# Altium schematic symbol library Schlib1.SchLib: 137 symbols (part 2 of 2)
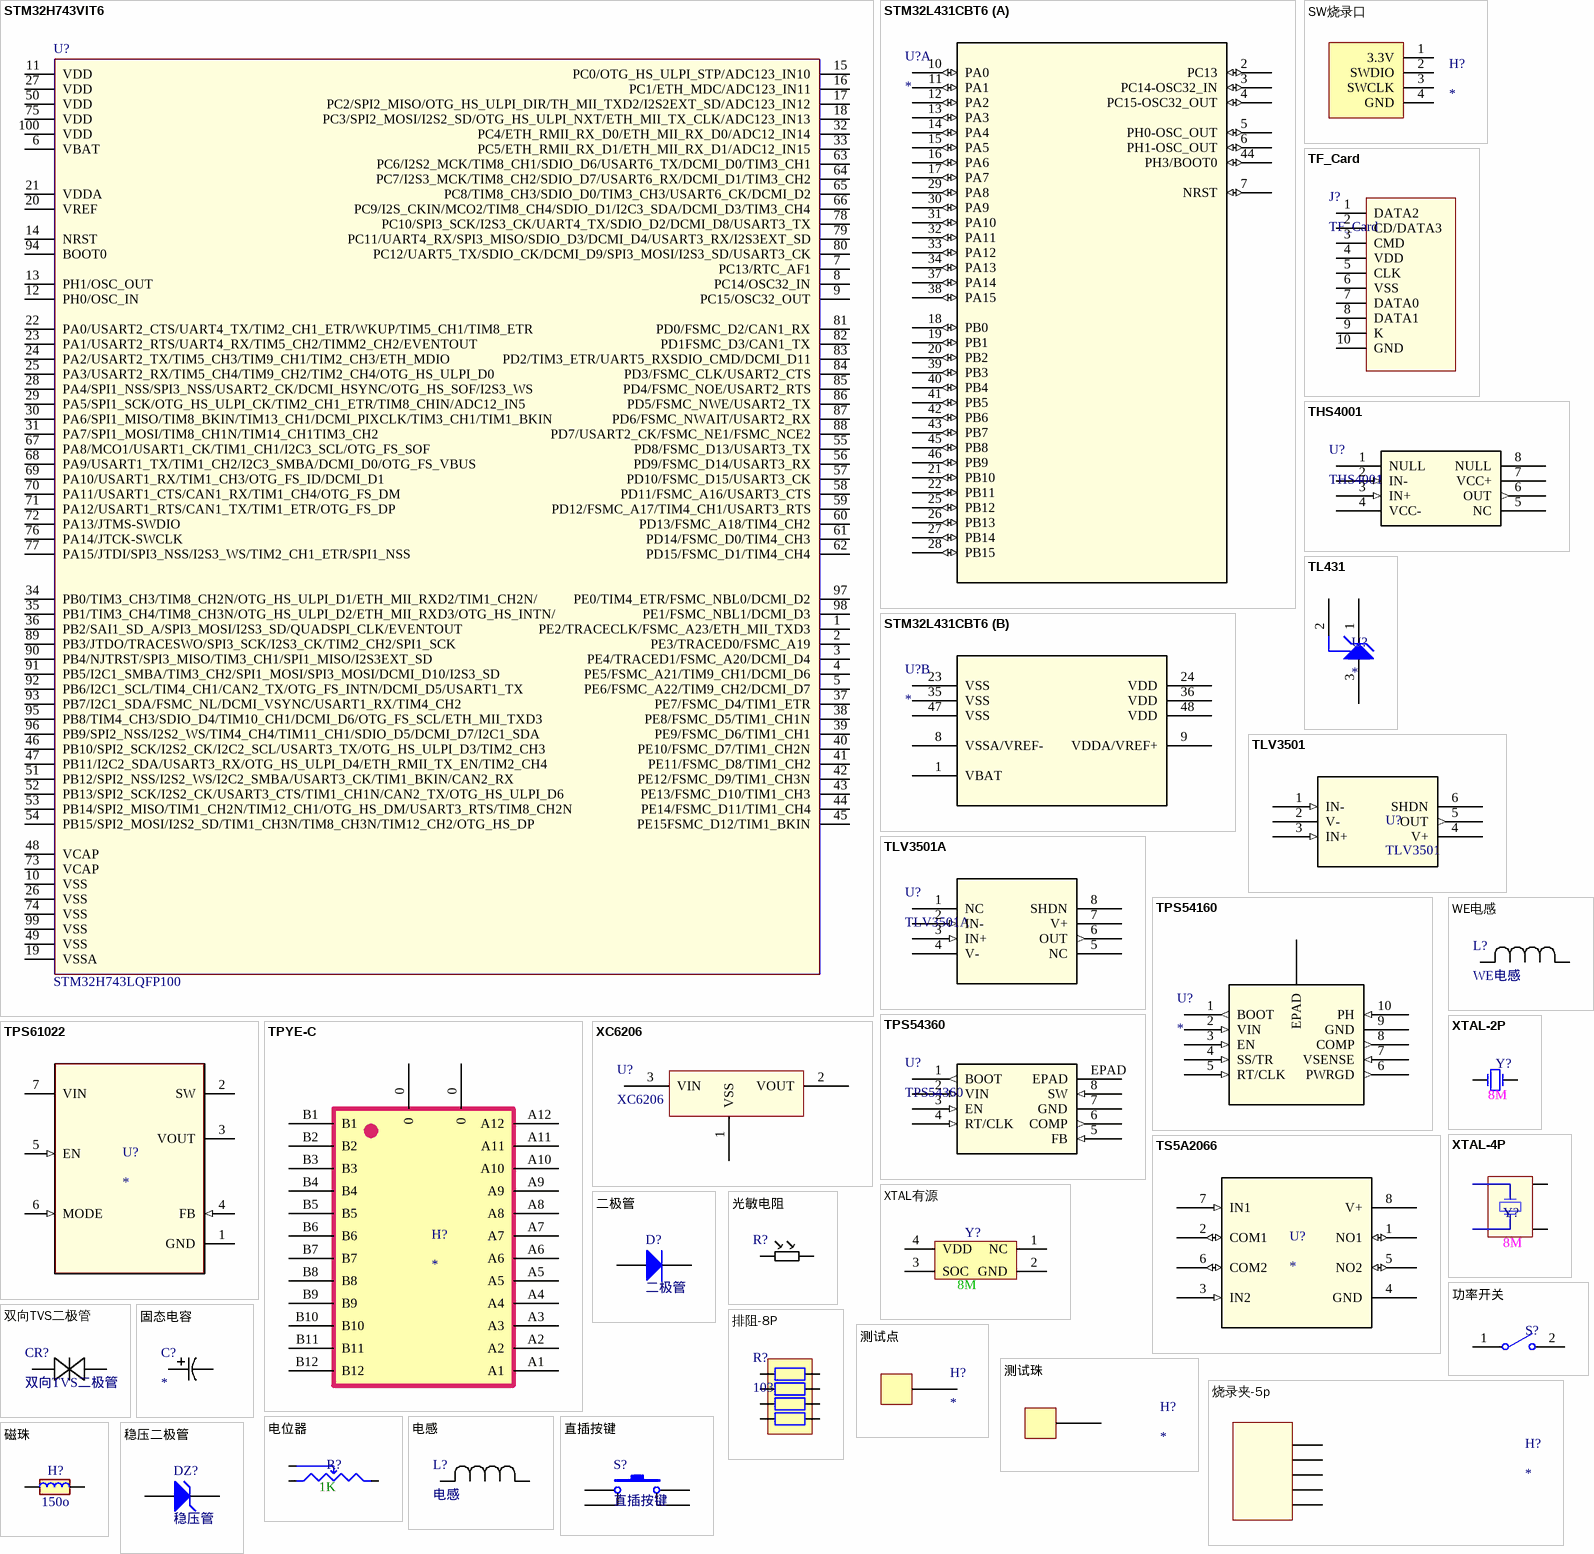
[diagram p7: symbols STM32H743VIT6 to 稳压二极管]

## TLV3501
designator U?
比较器; Manufacturer_Part_Number: TLV3501AIDBVT; Vendor: Texas Instruments; Built_By: EMA_UL_Team; Manufacturer: Texas Instruments; Copyright: Copyright (C) 2018 Accelerated Designs. All rights reserved; RefDes: RefDes; Type: DEV; Value: Value
footprint SOT-23-6
pins: 1 IN- (in), 2 V- (power), 3 IN+ (in), 4 V+ (power), 5 OUT (out), 6 SHDN

## TLV3501A
designator U?
Manufacturer_Part_Number: TLV3501AID; Vendor: Texas Instruments; PACKAGE_DESIGNATOR: D; PIN_COUNT: 8; FAMILY_NAME: COMPARATOR; INDUSTRY_STD_PKG_TYPE: SOIC; GENERIC_PART_NUMBER: TLV3501; Datasheet_URL: http://www.ti.com/lit/gpn/TLV3501; Manufacturer: Texas Instruments; Copyright: Copyright (C) 2018 Accelerated Designs. All rights reserved; RefDes: RefDes; Type: DEV
footprint SOIC-8 (3mm)
pins: 1 NC, 2 IN- (in), 3 IN+ (in), 4 V- (power), 5 NC, 6 OUT (out), 7 V+ (power), 8 SHDN

## TPS54160
designator U?
异步1.5A输出BUCK; Manufacturer_Part_Number: tps54160_dgq_10; GENERIC_PART_NUMBER: TPS54160; Vendor: Texas Instruments; PACKAGE_DESIGNATOR: DGQ; PIN_COUNT: 10; FAMILY_NAME: STEP-DOWN REGULATOR; INDUSTRY_STD_PKG_TYPE: MSOP-PowerPAD; Manufacturer: Texas Instruments; Datasheet_URL: http://www.ti.com/lit/gpn/TPS54160; Value: Value; Type: Type; RefDes: RefDes
footprint MSOP-10（with cooler）
pins: 1 BOOT (out), 2 VIN (in), 3 EN (in), 4 SS/TR (in), 5 RT/CLK (in), 6 PWRGD (out), 7 VSENSE (in), 8 COMP (out), 9 GND (power), 10 PH (in), EPAD

## TPS54360
designator U?
异步3A输出BUCK; Manufacturer_Part_Number: TPS54360DDAR; Vendor: Texas Instruments; Built_By: EMA_UL_Team; Copyright: Copyright (C) 2018 Accelerated Designs. All rights reserved; RefDes: RefDes; Type: DEV; Value: Value
footprint HSOIC8
pins: 1 BOOT (out), 2 VIN (in), 3 EN (in), 4 RT/CLK (in), 5 FB (in), 6 COMP (out), 7 GND (power), 8 SW (in), EPAD

## TPS61022
designator U?
0.5V 输入电压 8A 输出BOOST; Manufacturer: Texas Instruments; PartNumber: TPS61022RWUR; RefDes: RefDes; TYPE: TYPE; Value: Value
footprint VQFN-7
pins: 1 GND (power), 2 SW (power), 3 VOUT (power), 4 FB (in), 5 EN (in), 6 MODE (in), 7 VIN (power)

## TPYE-C
designator H?
footprint TYPE-C 24P
pins: 0, 0, A1, A2, A3, A4, A5, A6, A7, A8, A9, A10, A11, A12, B1, B2, B3, B4, B5, B6, B7, B8, B9, B10, B11, B12

## TS5A2066
designator U?
PartNumber: TS5A2066DCUR; Manufacturer: Texas Instruments; RefDes: RefDes; Type: DEV; Value: Value; Copyright: Copyright (C) 2018 Accelerated Designs. All rights reserved
footprint VSSOP-8
pins: 1 NO1 (io), 2 COM1 (io), 3 IN2 (in), 4 GND (power), 5 NO2 (io), 6 COM2 (io), 7 IN1 (in), 8 V+ (power)

## WE电感
designator L?
Manufacturer_Part_Number: 744325240; Vendor: Wurth Electronics; Built_By: EMA_UL_Team; Type: DEV; Copyright: Copyright (C) 2018 Accelerated Designs. All rights reserved; RefDes: RefDes; Value: Value
footprint WE1050
pins: 1, 2

## XC6206
designator U?
Manufacturer_Part_Number: XC6206P502MR; Vendor: Torex Semiconductor; Built_By: EMA_UL_Team; Copyright: Copyright (C) 2018 Accelerated Designs. All rights reserved; RefDes: RefDes; Type: DEV; Value: Value
footprint SOT-23-3
pins: 1 VSS, 2 VOUT, 3 VIN (power)

## XTAL-2P
designator Y?  (value not drawn)
无源晶振
footprint XTAL-5032_2P
pins: 1 OSC1, 2 OSC2
text: 8M

## XTAL-4P
designator Y?  (value not drawn)
无源晶振
footprint XTAL-5032_4P
footprint XTAL-3225_4P
pins: 1 OSC1, 2 GND, 3 OSC2, 4 GND
text: 8M

## XTAL有源
designator Y?  (value not drawn)
晶振
footprint 7050
pins: 1 NC, 2 GND, 3 SOC, 4 VDD
text: 8M

## 二极管
designator D?
Published: 8-Jun-2000; LatestRevisionDate: 17-Jul-2002; LatestRevisionNote: Re-released for DXP Platform.; PackageReference: DIODE-0.7; Publisher: Altium Limited; PackageDescription: Diode, Thru-Hole; 2 Leads; 0.7 in Pin Spacing
footprint SOD-523
footprint SOD-123
footprint DO-0603
pins: 1 A, 2 K

## 光敏电阻
designator R?
Manufacturer_Part_Number: ERJ-6GEYJ335V; Vendor: Panasonic; Built_By: EMA_UL_Team; Copyright: Copyright (C) 2018 Accelerated Designs. All rights reserved; RefDes: RefDes; Type: DEV; Value: Value
footprint 光敏电阻
pins: 1, 2

## 功率开关
designator S?  (value not drawn)
footprint 船型开关
pins: 1, 2

## 双向TVS二极管
designator CR?
Manufacturer_Part_Number: SM6T15CA; Vendor: STMicroelectronics; Built_By: EMA_UL_Team; Type: DEV; Copyright: Copyright (C) 2018 Accelerated Designs. All rights reserved; RefDes: RefDes; Value: Value
footprint DO-214AB
pins: 1, 2

## 固态电容
designator C?
Manufacturer_Part_Number: 16SEPC470M; Vendor: Panasonic; Built_By: EMA_UL_Team; Type: DEV; C: Copyright (C) 2015 Accelerated Designs. All rights reserved; RefDes: RefDes; Value: Value
footprint PCAP-5.54mm
footprint PCAP-7.62mm
footprint Panasonic F13
pins: 1, 2

## 排阻-8P
designator R?, comment 103
贴片网络排阻; 版权归属: 源创客; BOM名称: 贴片网络排阻; 学习资源: www.ooocke.com
footprint 排阻8P-0603 (3.2mm*1.6mm*0.6mm(长*宽*厚))
footprint 排阻8P-0402 (2mm*1mm*0.45mm(长*宽*厚))
pins: 1, 2, 3, 4, 5, 6, 7, 8

## 测试点
designator H?
footprint 测试焊盘 1.5*3
pins: 1

## 测试珠
designator H?
footprint 测试珠0.1
footprint 测试环
pins: 1

## 烧录夹-5p
designator H?
footprint 烧录夹-5p-2mm
pins: 1, 2, 3, 4, 5

## 电位器
designator R?  (value not drawn)
footprint 0932电位器
pins: 1, 2, 3
text: 1K

## 电感
designator L?
Manufacturer_Part_Number: 744325240; Vendor: Wurth Electronics; Built_By: EMA_UL_Team; Type: DEV; Copyright: Copyright (C) 2018 Accelerated Designs. All rights reserved; RefDes: RefDes; Value: Value
footprint L-3012
footprint 直插电感（李兹线）
pins: 1, 2

## 直插按键
designator S?
微动开关
footprint Switch 6*6
pins: 1, 2 4, 3, 4 2

## 磁珠
designator H?  (value not drawn)
footprint L-1806
pins: 1, 2
text: 150o

## 稳压二极管
designator DZ?, comment 稳压管
Published: 8-Jun-2000; LatestRevisionDate: 17-Jul-2002; LatestRevisionNote: Re-released for DXP Platform.; PackageReference: DIODE-0.7; Publisher: Altium Limited; PackageDescription: Diode, Thru-Hole; 2 Leads; 0.7 in Pin Spacing
footprint DO-219AB
pins: 1 A, 2 K

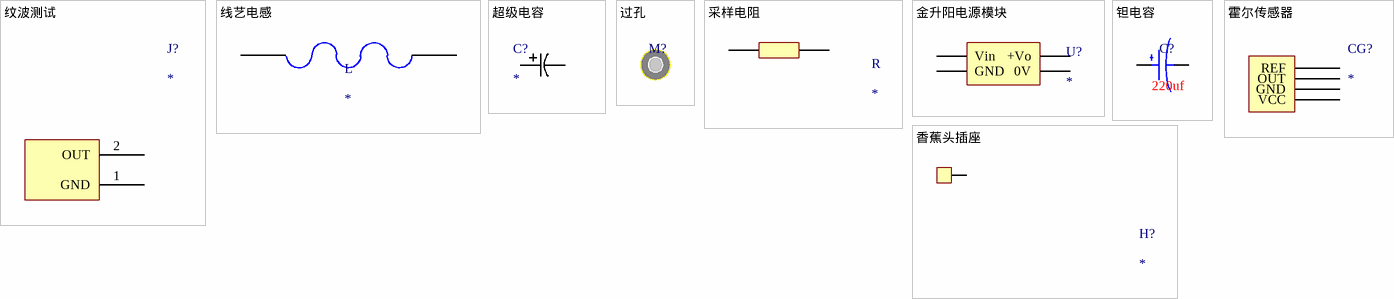
[diagram p6: symbols 纹波测试 to 香蕉头插座]

## 纹波测试
designator J?
footprint 纹波测试
pins: 1 GND, 2 OUT

## 线艺电感
designator L
footprint XAL4020
footprint SER2900
footprint XFL3012
footprint XAL6060
footprint XAL5050
footprint XAL1510
pins: 1, 2

## 超级电容
designator C?
Manufacturer_Part_Number: 16SEPC470M; Vendor: Panasonic; Built_By: EMA_UL_Team; Type: DEV; C: Copyright (C) 2015 Accelerated Designs. All rights reserved; RefDes: RefDes; Value: Value
footprint SuperCap 10mm 22mm
pins: 1, 2

## 过孔
designator M?  (value not drawn)
footprint M3过孔

## 采样电阻
designator R
footprint RES 2512
footprint 采样电阻TO-220
footprint R1632
footprint RES_FCSL76
pins: 1, 2

## 金升阳电源模块
designator U?
footprint IB_S-2W
pins: 1 Vin, 2 GND, 3 0V, 4 +Vo

## 钽电容
designator C?  value 220uf  (hidden comment: *)
footprint TAN-A-3216
footprint TAN-B-3528
footprint TAN-C-6032
footprint TAN-D-7343
footprint TAN-E-7343
pins: 1, 2

## 霍尔传感器
designator CG?
footprint HCS-ES5
pins: 1 REF, 2 OUT, 3 GND, 4 VCC

## 香蕉头插座
designator H?
footprint 香蕉头过孔
footprint 6mm 8mm
pins: 1